# Altium schematic symbol library Sensor.SchLib: 8 symbols
Pins are listed as number, name and electrical type; pins without a type are passive.

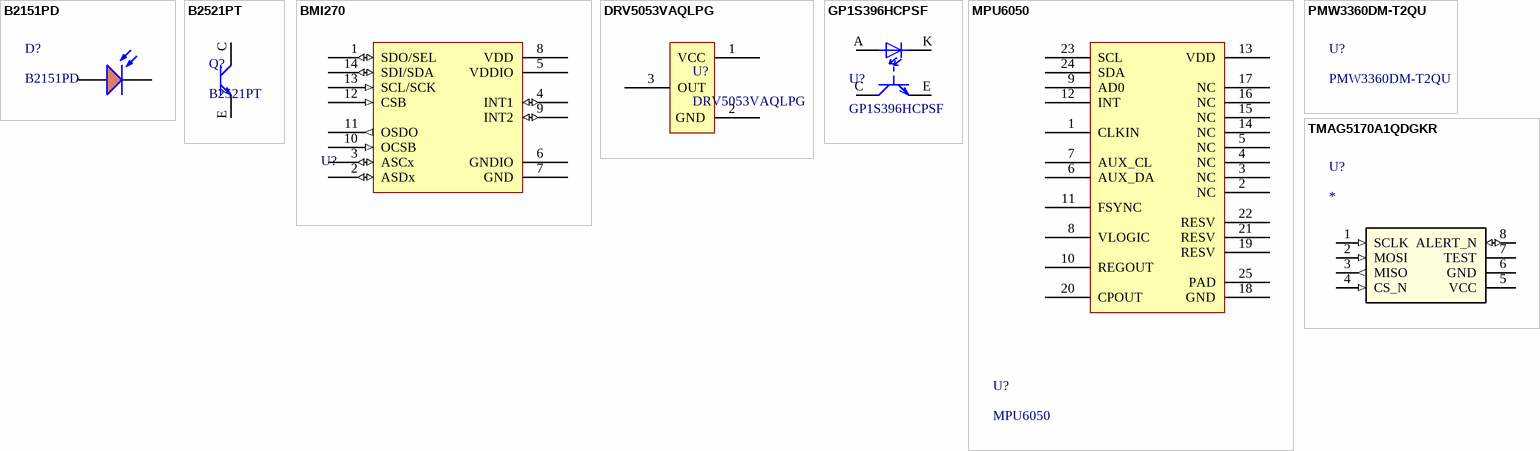
[diagram p0: symbols B2151PD to TMAG5170A1QDGKR]

## B2151PD
designator D?
SENSOR PHOTODIODE 940NM 2SMD; Package: 2-SMD
footprint B2151PD
pins: A, K

## B2521PT
designator Q?
Surface Mount Phototransistor
footprint B2151PT
pins: C, E

## BMI270
designator U?
6-axis, smart, low power Inertial Measurement Unit for high-performance applications
footprint BMI270
pins: 1 SDO/SEL (io) "I2C address bit-0, output in SPI", 2 ASDx (io) "Aux interface", 3 ASCx (io) "Aux interface", 4 INT1 (io) "Interrupt pin 1", 5 VDDIO (power) "Digital IO supply from 1.2 to 3.6V", 6 GNDIO (power) "Ground", 7 GND (power) "Ground", 8 VDD (power) "Power supply from 1.71 to 3.6V", 9 INT2 (io) "Interrupt pin 2", 10 OCSB (in) "OIS interface", 11 OSDO (out) "OIS interface", 12 CSB (in) "Schip select for SPI", 13 SCL/SCK (in) "Clock pin", 14 SDI/SDA (io) "SDA for I2C and SDI for SPI"

## DRV5053VAQLPG
designator U?
Hall effect sensor
footprint TO-92L
pins: 1 VCC, 2 GND, 3 OUT

## GP1S396HCPSF
designator U?
1.2mm SMD  Photointerrupters - Slot Type - Transistor Output ROHS; Forward Current: 20mA; Forward Voltage: 1.2V; Max Response Time: 120μs; Collector-Emitter Saturation Voltage: 0.4V
footprint GP1S396HCPSF (Gap : 1.2mm Slit : 0.12mm / Refer datasheet for more detailed 3D model)
pins: A, C, E, K

## MPU6050
designator U?
IMU
footprint PQFN-24-MPU6050
pins: 1 CLKIN, 2 NC, 3 NC, 4 NC, 5 NC, 6 AUX_DA, 7 AUX_CL, 8 VLOGIC, 9 AD0, 10 REGOUT, 11 FSYNC, 12 INT, 13 VDD, 14 NC, 15 NC, 16 NC, 17 NC, 18 GND, 19 RESV, 20 CPOUT, 21 RESV, 22 RESV, 23 SCL, 24 SDA, 25 PAD

## PMW3360DM‐T2QU
designator U?
Optical Gaming Navigation Chip

## TMAG5170A1QDGKR
designator U?
No Description Available; Mfr_Name: Texas Instruments; TYPE: TYPE; RefDes: RefDes; ComponentLink1Description: Reference; ComponentLink1URL: https://www.ti.com/product/TMAG5170?login-check=true#cad-cae-symbols; ComponentLink2Description: Datasheet; ComponentLink2URL: https://www.ti.com/lit/ds/symlink/tmag5170.pdf?ts=1711134177196&ref_url=https%253A%252F%252Fwww.ti.com%252Fproduct%252FTMAG5170
footprint DGK0008A-IPC_A
footprint TMAG5170-H (TMAG5170 Wizard High Density)
pins: 1 SCLK (in), 2 MOSI (in), 3 MISO (out), 4 CS_N (in), 5 VCC (power), 6 GND (power), 7 TEST (power), 8 ALERT_N (io)